# Altium schematic symbol library NVMemory.SchLib: 1 symbol
Pins are listed as number, name and electrical type; pins without a type are passive.

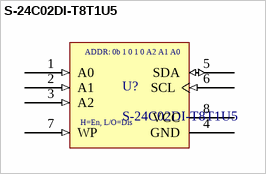
[diagram p0: symbol S-24C02DI-T8T1U5]

## S-24C02DI-T8T1U5
designator U?
SII Semi S-24C02DI-T8T1U5 I2C 256 x 8bit EEPROM; Supplier 1: Digi-Key; Supplier Part Number 1: 1662-1001-2-ND
footprint TSOP65P640X110-8L (TSOP, 8-Leads, Body 3.05x4.40mm, Pitch 0.65mm, IPC High Density)
pins: 1 A0 (in), 2 A1 (in), 3 A2 (in), 4 GND (power), 5 SDA (io), 6 SCL (in), 7 WP (in) "Write Protect - VCC=Enabled, GND/Open=Disabled", 8 VCC (power)
text: ADDR: 0b 1 0 1 0 A2 A1 A0; H=En, L/O=Dis